# EAGLE library part LT1999 (library nonolith)
LT1999
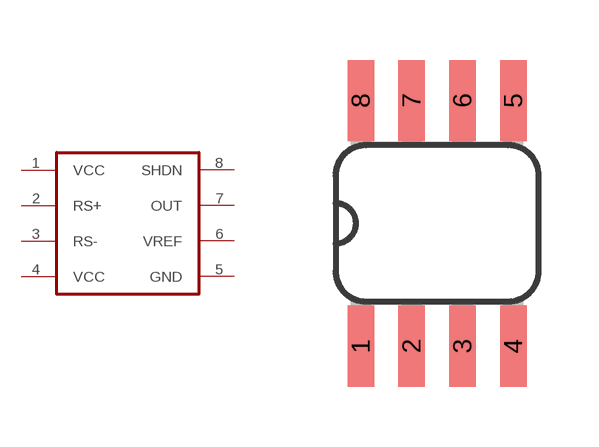
[diagram p23: symbol with the pads of SO-08; footprint SO-08]

Designator prefix -

## LT1999  [SO-08]
1  VCC
2  RS+
3  RS-
4  VCC
5  GND
6  VREF
7  OUT
8  SHDN

## Footprint SO-08 (pad centres in mm)
smd 0.66 x 2.032: 1 -1.905,-3.073; 2 -0.635,-3.073; 3 0.635,-3.073; 4 1.905,-3.073; 5 1.905,3.073; 6 0.635,3.073; 7 -0.635,3.073; 8 -1.905,3.073